# Altium footprint library MPU-60X0.PcbLib: 1 footprints
Each footprint in its own frame and in the unit in brackets; x right, y up, seen from the top. Pads: shape width x height; smd on the part's side, far side on the other; paste and mask are expansions set on the pad; w line width, h text height; cw(c..) or ccw(c..) is an arc to the next point about the centre after c.
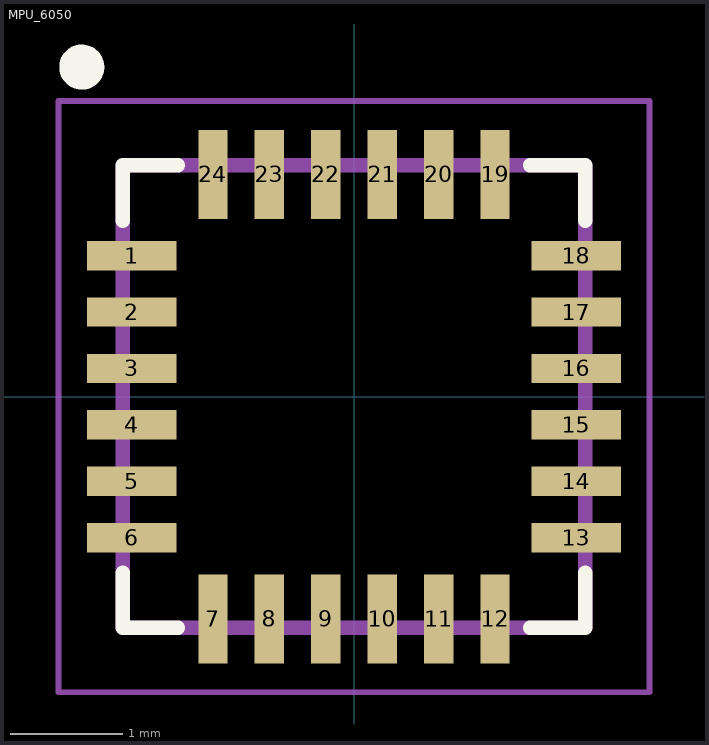
[diagram p0: the footprint, top view; thin cyan lines are the x and y axes]

## MPU_6050 [mm]
pads (24):
  rect 0.79x0.26 smd: 1(-1.97,1.25) 2(-1.97,0.75) 3(-1.97,0.25) 4(-1.97,-0.25) 5(-1.97,-0.75) 6(-1.97,-1.25) 13(1.97,-1.25) 14(1.97,-0.75) 15(1.97,-0.25) 16(1.97,0.25) 17(1.97,0.75) 18(1.97,1.25)
  rect 0.26x0.79 smd: 7(-1.25,-1.97) 8(-0.75,-1.97) 9(-0.25,-1.97) 10(0.25,-1.97) 11(0.75,-1.97) 12(1.25,-1.97) 19(1.25,1.97) 20(0.75,1.97) 21(0.25,1.97) 22(-0.25,1.97) 23(-0.75,1.97) 24(-1.25,1.97)
Top Overlay:
  circle w0.2: c-2.413,2.921 r0.1
  lines w0.127: -2.05,-1.56 -2.05,-2.05 -1.56,-2.05 ; -2.05,1.56 -2.05,2.05 -1.56,2.05 ; 1.56,-2.05 2.05,-2.05 2.05,-1.56 ; 1.56,2.05 2.05,2.05 2.05,1.56
Mechanical 13:
  lines w0.127: -2.05,-2.05 -2.05,2.05 2.05,2.05 2.05,-2.05 -2.05,-2.05
Mechanical 15:
  lines w0.05: -2.62,-2.62 -2.62,2.62 2.62,2.62 2.62,-2.62 -2.62,-2.62
3D body "step_temp.STEP": height 0.93, standoff -0.02, extent -2,-2 2,2